# EAGLE library part ADAFRUIT_CP2104_FRIEND (library me433-2021)
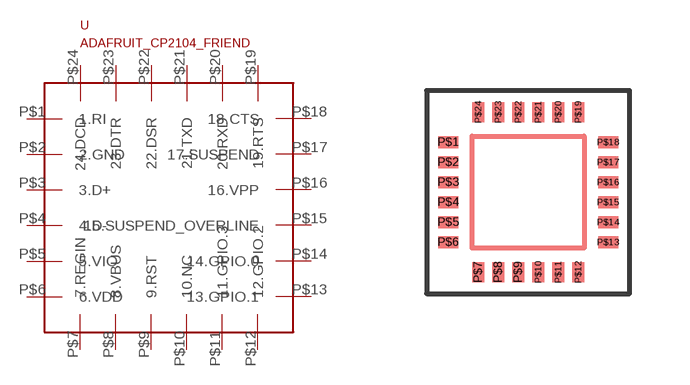
[diagram p8: symbol with the pads of ADAFRUIT_CP2104_FRIEND; footprint ADAFRUIT_CP2104_FRIEND]

Designator prefix -

## ADAFRUIT_CP2104_FRIEND  [ADAFRUIT_CP2104_FRIEND]
P$1  1.RI
P$2  2.GND
P$3  3.D+
P$4  4.D-
P$5  5.VIO
P$6  6.VDD
P$7  7.REGIN
P$8  8.VBUS
P$9  9.RST
P$10  10.NC
P$11  11.GPIO.3
P$12  12.GPIO.2
P$13  13.GPIO.1
P$14  14.GPIO.0
P$15  15.SUSPEND_OVERLINE
P$16  16.VPP
P$17  17.SUSPEND
P$18  18.CTS
P$19  19.RTS
P$20  20.RXD
P$21  21.TXD
P$22  22.DSR
P$23  23.DTR
P$24  24.DCD

## Footprint ADAFRUIT_CP2104_FRIEND (pad centres in mm)
smd 0.5 x 0.3: P$1 -2,1.25; P$2 -2,0.75; P$3 -2,0.25; P$4 -2,-0.25; P$5 -2,-0.75; P$6 -2,-1.25; P$13 2,-1.25; P$14 2,-0.75; P$15 2,-0.25; P$16 2,0.25; P$17 2,0.75; P$18 2,1.25
smd 0.3 x 0.5: P$7 -1.25,-2; P$8 -0.75,-2; P$9 -0.25,-2; P$10 0.25,-2; P$11 0.75,-2; P$12 1.25,-2; P$19 1.25,2; P$20 0.75,2; P$21 0.25,2; P$22 -0.25,2; P$23 -0.75,2; P$24 -1.25,2